# EAGLE library part MCP6022 (library EurorackModularParts)
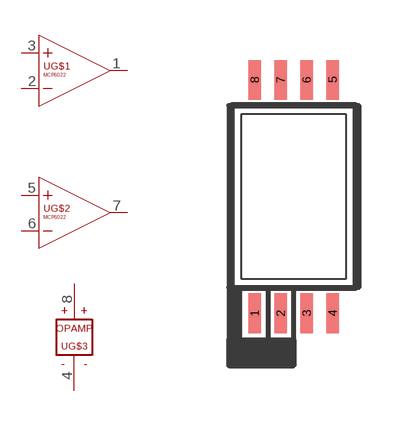
[diagram p20: symbol with the pads of TSSOP8; footprint TSSOP8]

Designator prefix -; gates G$1=OPAMP G$2=OPAMP G$3=PWR+-

## MCP6022I/ST  [TSSOP8]
1  G$1:OUT  out
2  G$1:-IN  in
3  G$1:+IN  in
4  G$3:V-  pwr
5  G$2:+IN  in
6  G$2:-IN  in
7  G$2:OUT  out
8  G$3:V+  pwr

## Footprint TSSOP8 (pad centres in mm)
smd 0.305 x 0.991: 1 -0.975,-2.918; 2 -0.325,-2.918; 3 0.325,-2.918; 4 0.975,-2.918; 5 0.975,2.918; 6 0.325,2.918; 7 -0.325,2.918; 8 -0.975,2.918